# EAGLE library part L7987 (library L7987)
61 V 3 A asynchronous step-down switching regulator with adjustable current limitation Source: Datasheet <https://www.st.com/resource/en/datasheet/l7987.pdf>
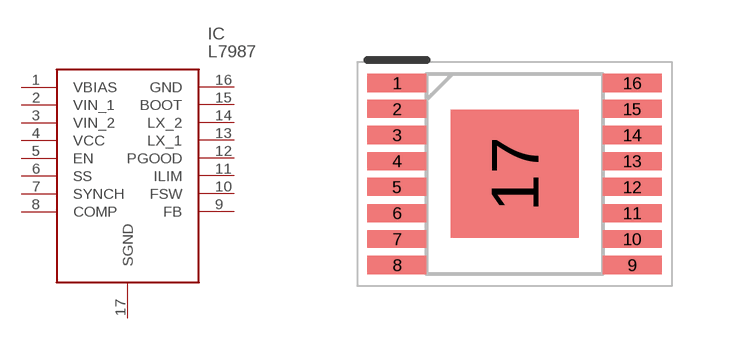
[diagram p0: symbol with the pads of SOP65P640X120-17N; footprint SOP65P640X120-17N]

Designator prefix IC

## L7987 (Description: 61 V 3 A asynchronous step-down switching regulator with adjustable current limitation; Height: 1.2mm; Manufacturer_Name: STMicroelectronics; Manufacturer_Part_Number: L7987)  [SOP65P640X120-17N]
1  VBIAS
2  VIN_1
3  VIN_2
4  VCC
5  EN
6  SS
7  SYNCH
8  COMP
9  FB
10  FSW
11  ILIM
12  PGOOD
13  LX_1
14  LX_2
15  BOOT
16  GND
17  SGND

## Footprint SOP65P640X120-17N (pad centres in mm)
HTSSOP16_2022
smd 1.475 x 0.45: 1 -2.938,2.275; 2 -2.938,1.625; 3 -2.938,0.975; 4 -2.938,0.325; 5 -2.938,-0.325; 6 -2.938,-0.975; 7 -2.938,-1.625; 8 -2.938,-2.275; 9 2.938,-2.275; 10 2.938,-1.625; 11 2.938,-0.975; 12 2.938,-0.325; 13 2.938,0.325; 14 2.938,0.975; 15 2.938,1.625; 16 2.938,2.275
smd 3.2 x 3.2: 17 0,0